# Altium schematic symbol library HEP_DEV.SchLib: 5 symbols
Pins are listed as number, name and electrical type; pins without a type are passive.

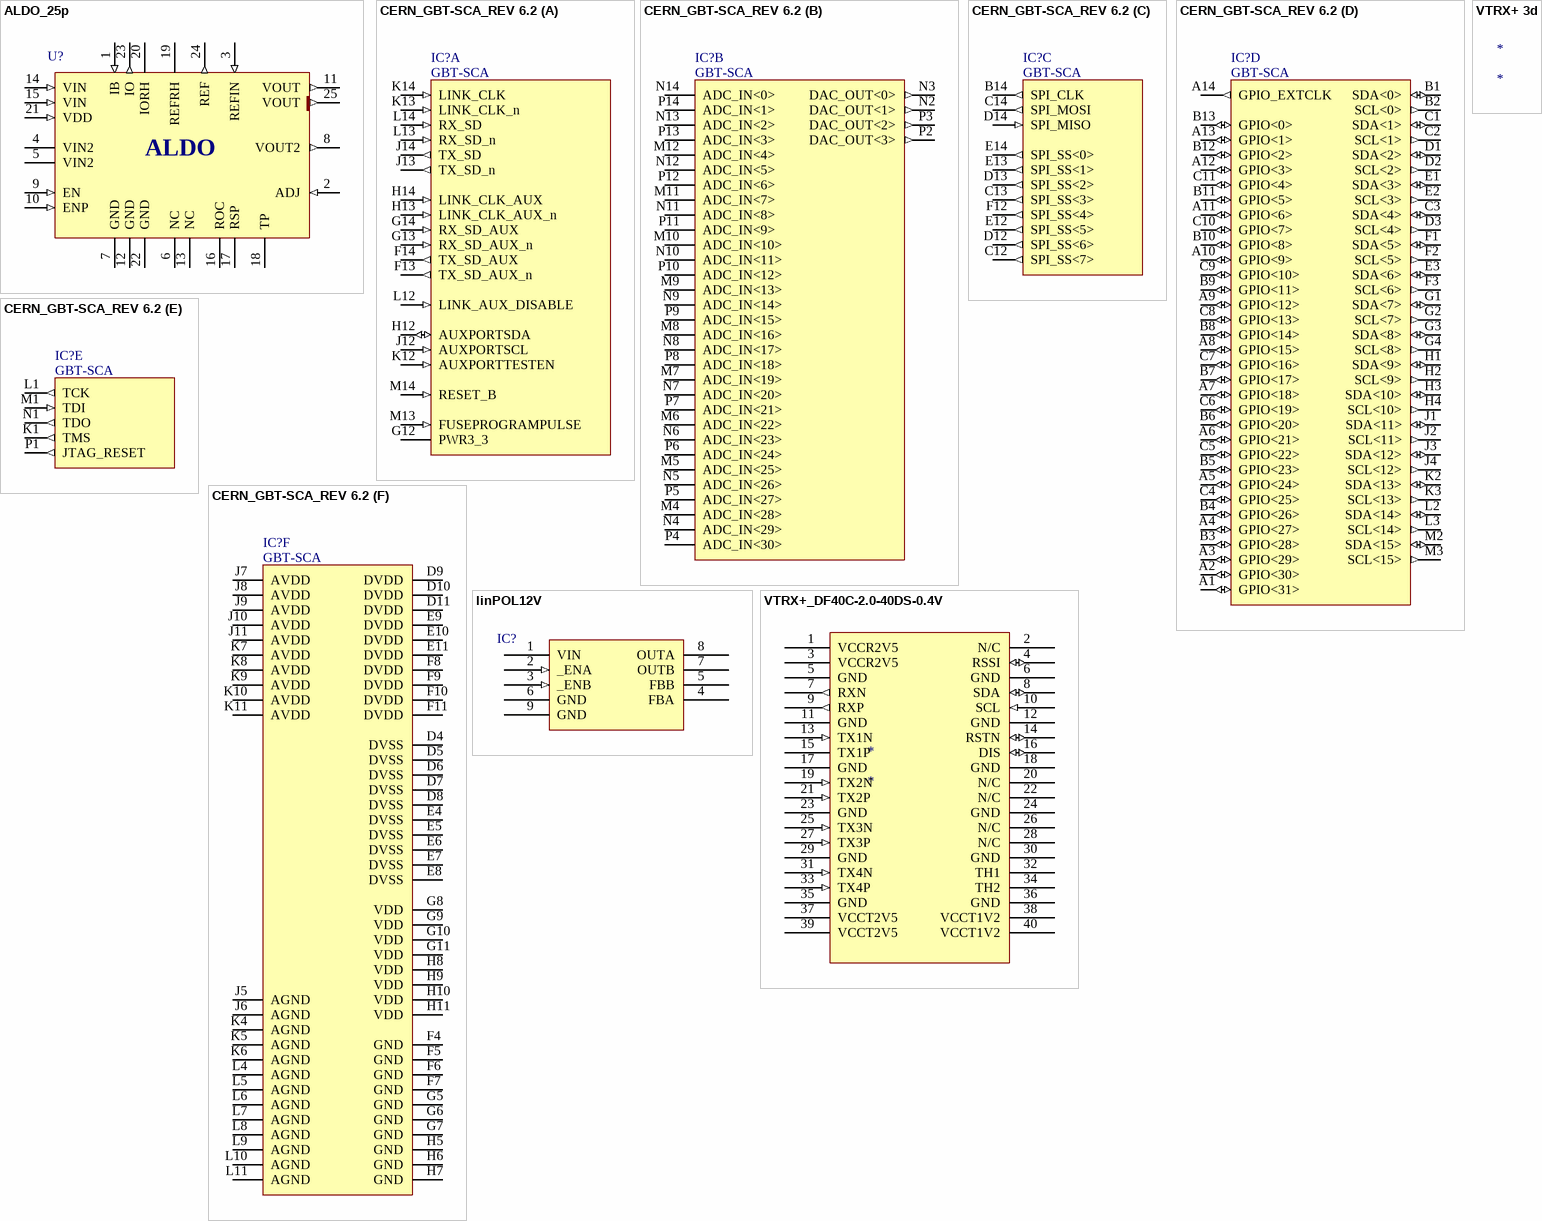
[diagram p0: symbols ALDO_25p to VTRX+_DF40C-2.0-40DS-0.4V]

## ALDO_25p
designator U?, comment ALDO-25p  (value not drawn)
ALDO Regulator
footprint QFN50P500X500x100-25N (Footprint not found)
footprint Model Name (Footprint not found)
footprint QFN25P500X500
pins: 1 IB (in), 2 ADJ (in), 3 REFIN (in), 4 VIN2, 5 VIN2, 6 NC, 7 GND (power), 8 VOUT2 (out), 9 EN (in), 10 ENP (in), 11 VOUT (out), 12 GND (power), 13 NC, 14 VIN (in), 15 VIN (in), 16 ROC, 17 RSP, 18 TP, 19 REFRH, 20 IORH, 21 VDD (in), 22 GND (power), 23 IO (out), 24 REF (out), 25 VOUT (out)
text: ALDO

## CERN_GBT-SCA_REV 6.2
designator IC?, comment GBT-SCA
The Slow Control Adapter ASIC for the GBT System; Device: GBT-SCA
part A pins: F13 TX_SD_AUX_n (out), F14 TX_SD_AUX (out), G12 PWR3_3 (power), G13 RX_SD_AUX_n (in), G14 RX_SD_AUX (in), H12 AUXPORTSDA (io), H13 LINK_CLK_AUX_n (in), H14 LINK_CLK_AUX (in), J12 AUXPORTSCL (in), J13 TX_SD_n (out), J14 TX_SD (out), K12 AUXPORTTESTEN (in), K13 LINK_CLK_n (in), K14 LINK_CLK (in), L12 LINK_AUX_DISABLE (in), L13 RX_SD_n (in), L14 RX_SD (in), M13 FUSEPROGRAMPULSE (in), M14 RESET_B (in)
part B pins: M4 ADC_IN<28>, M5 ADC_IN<25>, M6 ADC_IN<22>, M7 ADC_IN<19>, M8 ADC_IN<16>, M9 ADC_IN<13>, M10 ADC_IN<10>, M11 ADC_IN<7>, M12 ADC_IN<4>, N2 DAC_OUT<1> (out), N3 DAC_OUT<0> (out), N4 ADC_IN<29>, N5 ADC_IN<26>, N6 ADC_IN<23>, N7 ADC_IN<20>, N8 ADC_IN<17>, N9 ADC_IN<14>, N10 ADC_IN<11>, N11 ADC_IN<8>, N12 ADC_IN<5>, N13 ADC_IN<2>, N14 ADC_IN<0>, P2 DAC_OUT<3> (out), P3 DAC_OUT<2> (out), P4 ADC_IN<30>, P5 ADC_IN<27>, P6 ADC_IN<24>, P7 ADC_IN<21>, P8 ADC_IN<18>, P9 ADC_IN<15>, P10 ADC_IN<12>, P11 ADC_IN<9>, P12 ADC_IN<6>, P13 ADC_IN<3>, P14 ADC_IN<1>
part C pins: B14 SPI_CLK (out), C12 SPI_SS<7> (out), C13 SPI_SS<3> (out), C14 SPI_MOSI (out), D12 SPI_SS<6> (out), D13 SPI_SS<2> (out), D14 SPI_MISO (in), E12 SPI_SS<5> (out), E13 SPI_SS<1> (out), E14 SPI_SS<0> (out), F12 SPI_SS<4> (out)
part D pins: A1 GPIO<31> (io), A2 GPIO<30> (io), A3 GPIO<29> (io), A4 GPIO<27> (io), A5 GPIO<24> (io), A6 GPIO<21> (io), A7 GPIO<18> (io), A8 GPIO<15> (io), A9 GPIO<12> (io), A10 GPIO<9> (io), A11 GPIO<6> (io), A12 GPIO<3> (io), A13 GPIO<1> (io), A14 GPIO_EXTCLK (out), B1 SDA<0> (io), B2 SCL<0> (out), B3 GPIO<28> (io), B4 GPIO<26> (io), B5 GPIO<23> (io), B6 GPIO<20> (io), B7 GPIO<17> (io), B8 GPIO<14> (io), B9 GPIO<11> (io), B10 GPIO<8> (io), B11 GPIO<5> (io), B12 GPIO<2> (io), B13 GPIO<0> (io), C1 SDA<1> (io), C2 SCL<1> (out), C3 SDA<4> (io), C4 GPIO<25> (io), C5 GPIO<22> (io), C6 GPIO<19> (io), C7 GPIO<16> (io), C8 GPIO<13> (io), C9 GPIO<10> (io), C10 GPIO<7> (io), C11 GPIO<4> (io), D1 SDA<2> (io), D2 SCL<2> (out), D3 SCL<4> (out), E1 SDA<3> (io), E2 SCL<3> (out), E3 SDA<6> (io), F1 SDA<5> (io), F2 SCL<5> (out), F3 SCL<6> (out), G1 SDA<7> (io), G2 SCL<7> (out), G3 SDA<8> (io), G4 SCL<8> (out), H1 SDA<9> (io), H2 SCL<9> (out), H3 SDA<10> (io), H4 SCL<10> (out), J1 SDA<11> (io), J2 SCL<11> (out), J3 SDA<12> (io), J4 SCL<12> (out), K2 SDA<13> (io), K3 SCL<13> (out), L2 SDA<14> (io), L3 SCL<14> (out), M2 SDA<15> (io), M3 SCL<15> (out)
part E pins: K1 TMS (out), L1 TCK (out), M1 TDI (in), N1 TDO (out), P1 JTAG_RESET (out)
part F pins: D4 DVSS (power), D5 DVSS (power), D6 DVSS (power), D7 DVSS (power), D8 DVSS (power), D9 DVDD (power), D10 DVDD (power), D11 DVDD (power), E4 DVSS (power), E5 DVSS (power), E6 DVSS (power), E7 DVSS (power), E8 DVSS (power), E9 DVDD (power), E10 DVDD (power), E11 DVDD (power), F4 GND (power), F5 GND (power), F6 GND (power), F7 GND (power), F8 DVDD (power), F9 DVDD (power), F10 DVDD (power), F11 DVDD (power), G5 GND (power), G6 GND (power), G7 GND (power), G8 VDD (power), G9 VDD (power), G10 VDD (power), G11 VDD (power), H5 GND (power), H6 GND (power), H7 GND (power), H8 VDD (power), H9 VDD (power), H10 VDD (power), H11 VDD (power), J5 AGND (power), J6 AGND (power), J7 AVDD (power), J8 AVDD (power), J9 AVDD (power), J10 AVDD (power), J11 AVDD (power), K4 AGND (power), K5 AGND (power), K6 AGND (power), K7 AVDD (power), K8 AVDD (power), K9 AVDD (power), K10 AVDD (power), K11 AVDD (power), L4 AGND (power), L5 AGND (power), L6 AGND (power), L7 AGND (power), L8 AGND (power), L9 AGND (power), L10 AGND (power), L11 AGND (power)

## linPOL12V
designator IC?
pins: 1 VIN (power), 2 _ENA (in), 3 _ENB (in), 4 FBA, 5 FBB, 6 GND (power), 7 OUTB (power), 8 OUTA (power), 9 GND (power)

## VTRX+ 3d
designator *
footprint VL+ concept

## VTRX+_DF40C-2.0-40DS-0.4V
designator *
VTRX+ module with 2.5mm stack Height.
footprint EDL-VTRX+ Module
pins: 1 VCCR2V5 (power), 2 N/C, 3 VCCR2V5 (power), 4 RSSI (io), 5 GND, 6 GND, 7 RXN (out), 8 SDA (io), 9 RXP (out), 10 SCL (in), 11 GND, 12 GND, 13 TX1N (in), 14 RSTN (io), 15 TX1P, 16 DIS (io), 17 GND, 18 GND, 19 TX2N (in), 20 N/C, 21 TX2P (in), 22 N/C, 23 GND, 24 GND, 25 TX3N (in), 26 N/C, 27 TX3P (in), 28 N/C, 29 GND, 30 GND, 31 TX4N (in), 32 TH1, 33 TX4P (in), 34 TH2, 35 GND, 36 GND, 37 VCCT2V5 (power), 38 VCCT1V2 (power), 39 VCCT2V5 (power), 40 VCCT1V2 (power)